# EAGLE library part VIPPER22A (library MCE_CircuitosIntegrados)
LOW POWER OFF LINE SMPS PRIMARY SWITCHER
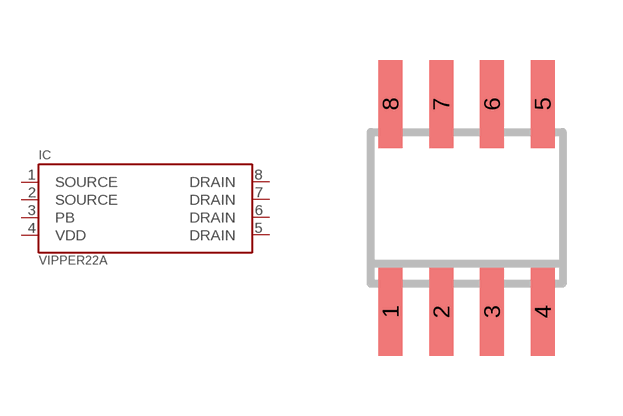
[diagram p7: symbol with the pads of SO8; footprint SO8]

Designator prefix IC

## VIPPER22A  [SO8]
1  SOURCE
2  SOURCE
3  PB
4  VDD
5  DRAIN
6  DRAIN
7  DRAIN
8  DRAIN

## Footprint SO8 (pad centres in mm)
8-Lead Small Outline IC (SO-8) Source: http://www.analog.com/UploadedFiles/Data_Sheets/703465986AD8611_2_0.pdf
smd 0.6 x 2.2: 1 -1.905,-2.6; 2 -0.635,-2.6; 3 0.635,-2.6; 4 1.905,-2.6; 5 1.905,2.6; 6 0.635,2.6; 7 -0.635,2.6; 8 -1.905,2.6